# Altium schematic symbol library CON2.SchLib: 1 symbol
Pins are listed as number, name and electrical type; pins without a type are passive.

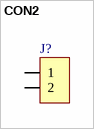
[diagram p0: symbol CON2]

## CON2
designator J?  (value not drawn)
Connector, 2x1
pins: 1, 2